# Altium schematic symbol library CRY晶振.SchLib: 1 symbol
Pins are listed as number, name and electrical type; pins without a type are passive.

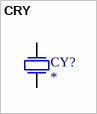
[diagram p0: symbol CRY]

## CRY
designator CY?
footprint XTAL-1
simulation model CRY (SUBCKT)
pins: 1 P1, 2 P2